# Altium footprint library standard_components.PcbLib: 19 footprints (part 2 of 2)
Each footprint in its own frame and in the unit in brackets; x right, y up, seen from the top. Pads: shape width x height; smd on the part's side, far side on the other; paste and mask are expansions set on the pad; w line width, h text height; cw(c..) or ccw(c..) is an arc to the next point about the centre after c.
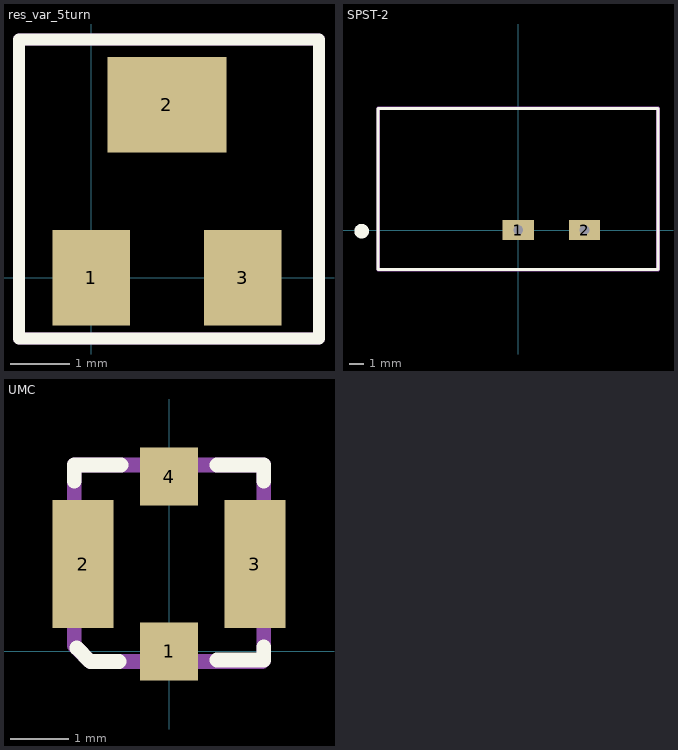
[diagram p1: the footprints below, top view; thin cyan lines are the x and y axes]

## res_var_5turn [mm]
pads (3):
  rect 1.3x1.6 smd: 1(0,0) 3(2.54,0)
  rect 2x1.6 smd: 2(1.27,2.9)
Top Overlay:
  lines w0.2: -1.21,-1.02 3.82,-1.02 3.82,3.99 -1.21,3.99 -1.21,-1.02
Mechanical 29:
  circle w0.4: c2.54,-0.073 r0.2
  lines w0.2: -1.21,-1.02 -1.21,3.99 3.82,3.99 3.82,-1.02 -1.21,-1.02
  text ".Designator" at -0.61,0.991 h1.52
3D body "SM-43TW2k_(202).stp": height 5.31, standoff 0.01, extent -1.1,-0.52 3.7,3.38

## SPST-2 [mil] "Switch; 2 Leads"
pads (2):
  rect 85x55 hole 27 square: 1(0,0) 2(181,0)
Top Overlay:
  circle w20: c-427,-3 r10
  lines w7.87: -382,-108 381,-108 381,332 -382,332 -382,-108
Mechanical 29:
  lines w10: -382,-108 381,-108 381,332 -382,332 -382,-108
  text ".Designator" at -26,74 h60
3D body "L101011MS02Q.stp": height 554.01, standoff -165.5, extent -377.29,-102.29 375.71,326.71

## UMC [mm]
height 8.1
pads (4):
  rect 1x1 smd: 1(0,0) 4(0,3)
  rect 1.05x2.2 smd: 2(-1.475,1.5) 3(1.475,1.5)
Top Overlay:
  lines w0.254: -1.625,2.925 -1.625,3.2 -0.825,3.2 ; -1.585,0.06 -1.35,-0.175 -0.86,-0.175 ; 0.825,-0.15 1.625,-0.15 1.625,0.075 ; 0.825,3.2 1.625,3.2 1.625,2.925
Mechanical 29:
  lines w0.254: -1.625,0.1 -1.625,3.2 1.625,3.2 1.625,-0.15 1.6,-0.175 -1.35,-0.175 -1.625,0.1
  text ".Designator" at -1.175,1.225 h0.7
3D body "734120110.stp": height 1.3, standoff 0, extent -1.5,-0.015 1.5,3.065